# Altium schematic symbol library OQ0271510000G.SchLib: 1 symbol
Pins are listed as number, name and electrical type; pins without a type are passive.

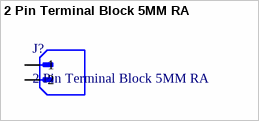
[diagram p0: symbol 2 Pin Terminal Block 5MM RA]

## 2 Pin Terminal Block 5MM RA
designator J?
2 Pin Terminal Block HDR 5MM THT RA _OQ0271510000G; MF: Amphenol Anytek; SnapEDA_Link: https://www.snapeda.com/parts/OQ0271510000G/Amphenol/view-part/?ref=snap; Package: None; Value: *; MP: OQ0271510000G; Check_prices: https://www.snapeda.com/parts/OQ0271510000G/Amphenol/view-part/?ref=eda
footprint AMPHENOL_OQ0271510000G
pins: 1, 2